# Altium schematic symbol library KF7620.SchLib: 14 symbols
Pins are listed as number, name and electrical type; pins without a type are passive.

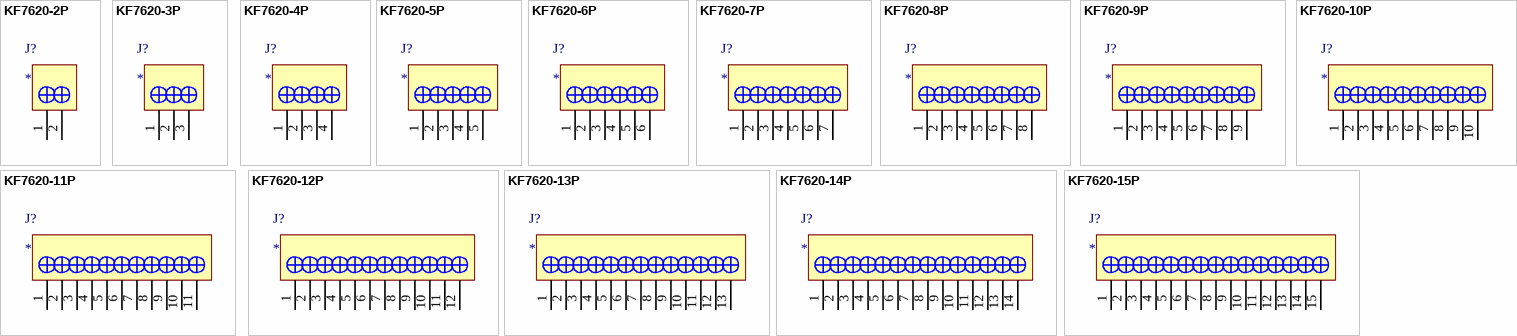
[diagram p0: symbols KF7620-2P to KF7620-15P]

## KF7620-2P
designator J?
footprint KF7620-2P (15.2*12*12mm(长宽高))
pins: 1, 2

## KF7620-3P
designator J?
footprint KF7620-3P (22.8*12*12mm(长宽高))
pins: 1, 2, 3

## KF7620-4P
designator J?
footprint KF7620-4P (30.5*12*12mm(长宽高))
pins: 1, 2, 3, 4

## KF7620-5P
designator J?
footprint KF7620-5P (38.1*12*12mm(长宽高))
pins: 1, 2, 3, 4, 5

## KF7620-6P
designator J?
footprint KF7620-6P (45.7*12*12mm(长宽高))
pins: 1, 2, 3, 4, 5, 6

## KF7620-7P
designator J?
footprint KF7620-7P (45.7*12*12mm(长宽高))
pins: 1, 2, 3, 4, 5, 6, 7

## KF7620-8P
designator J?
footprint KF7620-8P (61*12*12mm(长宽高))
pins: 1, 2, 3, 4, 5, 6, 7, 8

## KF7620-9P
designator J?
footprint KF7620-9P (61*12*12mm(长宽高))
pins: 1, 2, 3, 4, 5, 6, 7, 8, 9

## KF7620-10P
designator J?
footprint KF7620-10P (61*12*12mm(长宽高))
pins: 1, 2, 3, 4, 5, 6, 7, 8, 9, 10

## KF7620-11P
designator J?
footprint KF7620-11P (61*12*12mm(长宽高))
pins: 1, 2, 3, 4, 5, 6, 7, 8, 9, 10, 11

## KF7620-12P
designator J?
footprint KF7620-12P (61*12*12mm(长宽高))
pins: 1, 2, 3, 4, 5, 6, 7, 8, 9, 10, 11, 12

## KF7620-13P
designator J?
footprint KF7620-13P (61*12*12mm(长宽高))
pins: 1, 2, 3, 4, 5, 6, 7, 8, 9, 10, 11, 12, 13

## KF7620-14P
designator J?
footprint KF7620-14P (61*12*12mm(长宽高))
pins: 1, 2, 3, 4, 5, 6, 7, 8, 9, 10, 11, 12, 13, 14

## KF7620-15P
designator J?
footprint KF7620-15P (61*12*12mm(长宽高))
pins: 1, 2, 3, 4, 5, 6, 7, 8, 9, 10, 11, 12, 13, 14, 15